# Altium schematic symbol library Molex_9pin_53047-0910.SchLib: 1 symbol
Pins are listed as number, name and electrical type; pins without a type are passive.

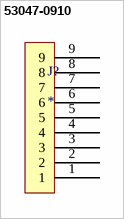
[diagram p0: symbol 53047-0910]

## 53047-0910
designator J?
Picoblade Molex 9pin connector; Reference: 53047-0910; Manufacturer: Molex
footprint 53047-0910 (Molex Picoblade 9pin 53047-0910)
pins: 1, 2, 3, 4, 5, 6, 7, 8, 9